# Altium schematic symbol library Schlib.SchLib: 22 symbols
Pins are listed as number, name and electrical type; pins without a type are passive.

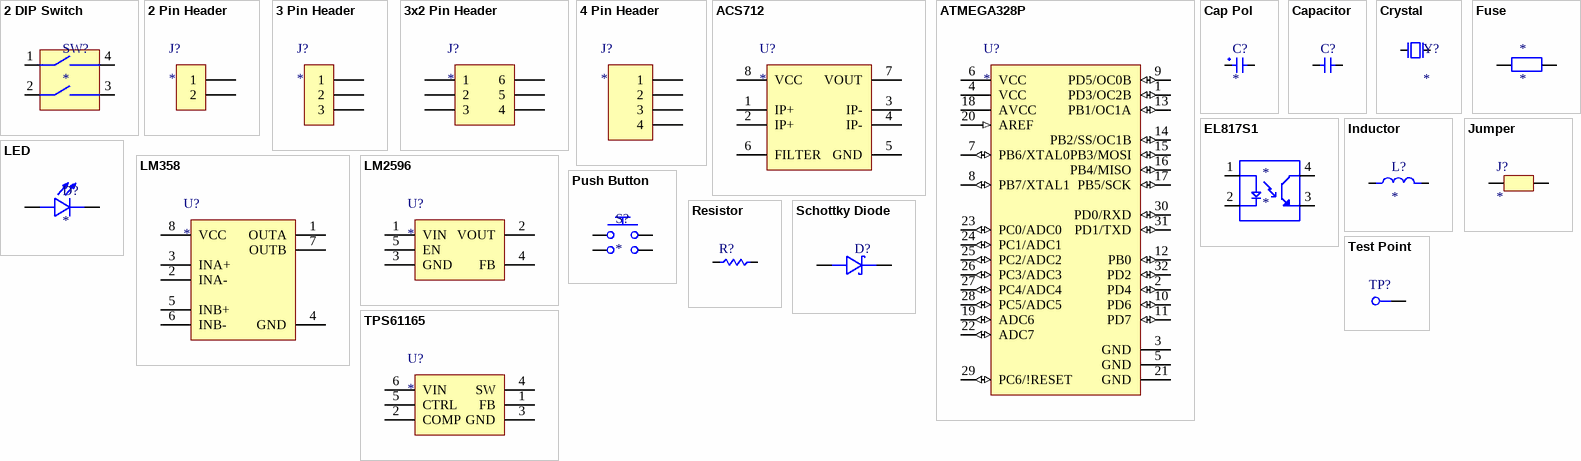
[diagram p0: symbols 2 DIP Switch to TPS61165]

## 2 DIP Switch
designator SW?
footprint EM-02KP
pins: 1, 2, 3, 4

## 2 Pin Header
designator J?
footprint 2POS 2.54mm Pin Header
footprint 2POS 5.08mm Screw Connector
pins: 1, 2

## 3 Pin Header
designator J?
footprint 2POS_SMD_2.5mm_CON
footprint MOLEX_3POS_1.25mm
footprint 3 POS 2.54mm PIN  Header
pins: 1, 2, 3

## 3x2 Pin Header
designator J?
footprint 2x3POS 2.54mm Pin Header
pins: 1, 2, 3, 4, 5, 6

## 4 Pin Header
designator J?
footprint 4POS 5.08mm Screw Connector
footprint 4POS 2.54mm PIN Header
pins: 1, 2, 3, 4

## ACS712
designator U?
footprint SOIC127P600X175-8N (SOIC, 8-Leads, Body 4.90x3.90mm, Pitch 1.27mm, IPC Medium Density)
pins: 1 IP+, 2 IP+, 3 IP-, 4 IP-, 5 GND, 6 FILTER, 7 VOUT, 8 VCC

## ATMEGA328P
designator U?
footprint ATMEGA328P-AU
pins: 1 PD3/OC2B (io), 2 PD4 (io), 3 GND (power), 4 VCC (power), 5 GND (power), 6 VCC (power), 7 PB6/XTAL0 (io), 8 PB7/XTAL1 (io), 9 PD5/OC0B (io), 10 PD6 (io), 11 PD7 (io), 12 PB0 (io), 13 PB1/OC1A (io), 14 PB2/SS/OC1B (io), 15 PB3/MOSI (io), 16 PB4/MISO (io), 17 PB5/SCK (io), 18 AVCC (power), 19 ADC6 (io), 20 AREF (in), 21 GND (power), 22 ADC7 (io), 23 PC0/ADC0 (io), 24 PC1/ADC1 (io), 25 PC2/ADC2 (io), 26 PC3/ADC3 (io), 27 PC4/ADC4 (io), 28 PC5/ADC5 (io), 29 PC6/!RESET (io), 30 PD0/RXD (io), 31 PD1/TXD (io), 32 PD2 (io)

## Cap Pol
designator C?
footprint VEJ470M1HTR-0607
pins: 1, 2

## Capacitor
designator C?
footprint RES402
footprint RES603
footprint RES805
pins: 1, 2

## Crystal
designator Y?
footprint X503216MSB2GI
pins: 1, 2

## EL817S1
designator *
footprint EL817S1
pins: 1 A, 2 C, 3 ET, 4 CT

## Fuse
designator *
footprint FUSE
footprint 39215000000
pins: 1, 2

## Inductor
designator L?
footprint CDRH104RNP-220NC
pins: 1, 2

## Jumper
designator J?
footprint 2POS_2.54mm_PIN_HEADER
pins: 1, 2

## LED
designator D?
footprint LED_SMD_CREE_3.45x3.45
footprint LED603
pins: A, C

## LM358
designator U?
footprint SOIC127P600X175-8N (SOIC, 8-Leads, Body 4.90x3.90mm, Pitch 1.27mm, IPC Medium Density)
pins: 1 OUTA, 2 INA-, 3 INA+, 4 GND, 5 INB+, 6 INB-, 7 OUTB, 8 VCC

## LM2596
designator U?
footprint LM2596-TO263
pins: 1 VIN, 2 VOUT, 3 GND, 4 FB, 5 EN

## Push Button
designator S?
footprint TS-1187A-C-E-B
pins: 1, 2, 3, 4

## Resistor
designator R?
footprint RES_SMD_1812
footprint RES402
footprint RES603
footprint RES805
pins: 1, 2

## Schottky Diode
designator D?
footprint LMBR0540T1G
footprint B330B-13-F
pins: A, C

## Test Point
designator TP?  (value not drawn)
footprint TP SMD
pins: 1

## TPS61165
designator U?
footprint TPS611DRVR
pins: 1 FB, 2 COMP, 3 GND, 4 SW, 5 CTRL, 6 VIN